# EAGLE library part MAX1771 (library Mine)
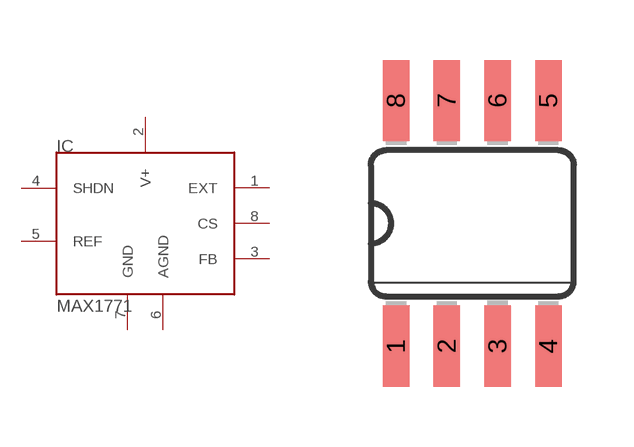
[diagram p25: symbol with the pads of SO08; footprint SO08]

Designator prefix IC

## MAX1771  [SO08]
1  EXT  out
2  V+  pwr
3  FB  in
4  SHDN  in
5  REF  in
6  AGND  pwr
7  GND  pwr
8  CS  in

## Footprint SO08 (pad centres in mm)
Small Outline package 8 150 mil
smd 0.66 x 2.032: 1 -1.905,-3.073; 2 -0.635,-3.073; 3 0.635,-3.073; 4 1.905,-3.073; 5 1.905,3.073; 6 0.635,3.073; 7 -0.635,3.073; 8 -1.905,3.073